# Altium footprint library PcbLib1.PcbLib: 7 footprints
Each footprint in its own frame and in the unit in brackets; x right, y up, seen from the top. Pads: shape width x height; smd on the part's side, far side on the other; paste and mask are expansions set on the pad; w line width, h text height; cw(c..) or ccw(c..) is an arc to the next point about the centre after c.
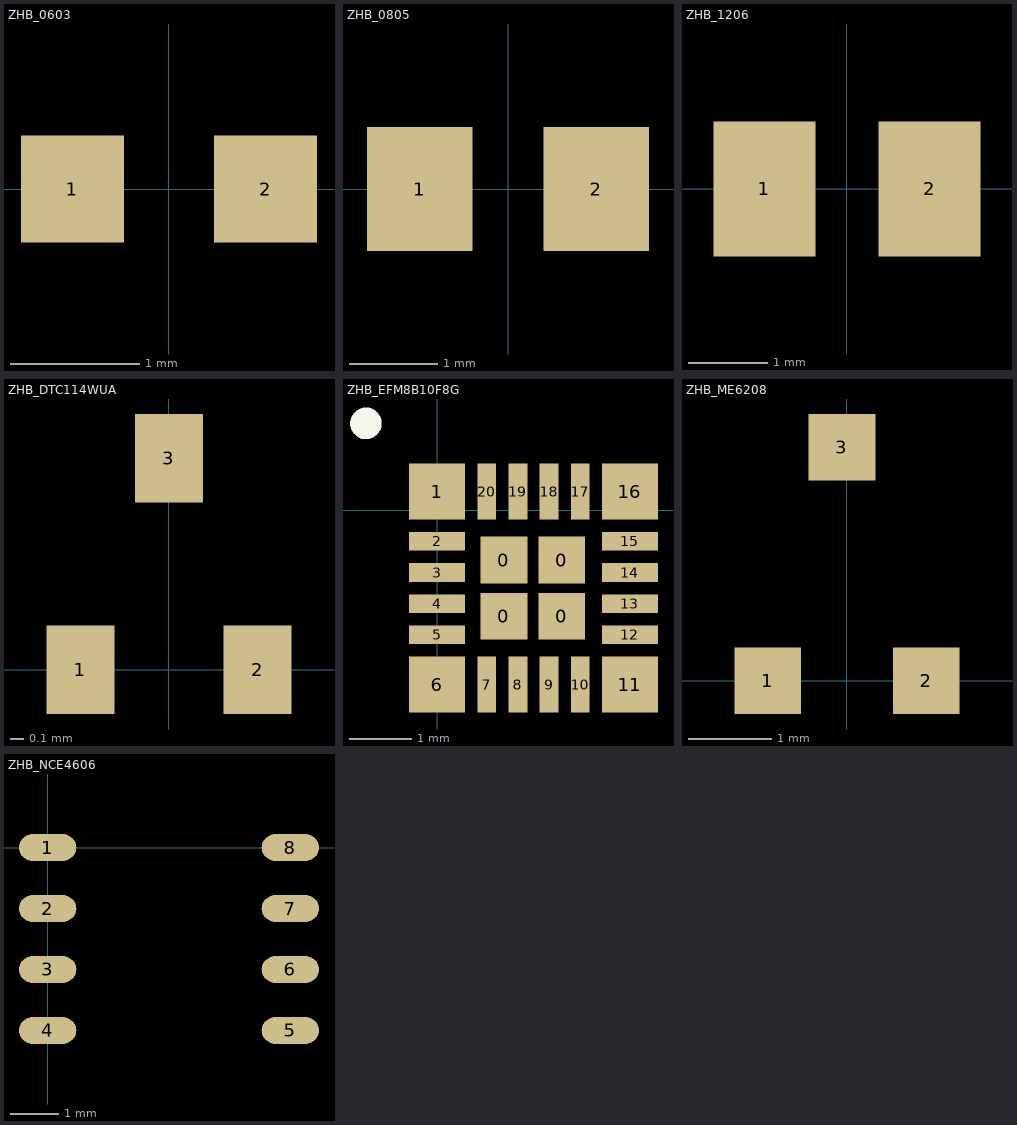
[diagram p0: the footprints below, top view; thin cyan lines are the x and y axes]

## ZHB_0603 [mm]
pads (2):
  rect 0.8x0.83 smd: 1(-0.75,0) 2(0.75,0)

## ZHB_0805 [mm]
pads (2):
  rect 1.2x1.4 smd: 1(-1,0) 2(1,0)

## ZHB_1206 [mm]
pads (2):
  rect 1.28x1.7 smd: 1(-1.04,0) 2(1.04,0)

## ZHB_DTC114WUA [mm]
pads (3):
  rect 0.5x0.65 smd: 1(-0.65,0) 2(0.65,0) 3(0,1.55)

## ZHB_EFM8B10F8G [mm]
pads (24):
  rect 0.75x0.75 smd: 0(1.075,-1.7) 0(1.075,-0.8) 0(2.005,-1.7) 0(2.005,-0.8)
  rect 0.9x0.9 smd: 1(0,0.3) 6(0,-2.8) 11(3.1,-2.8) 16(3.1,0.3)
  rect 0.9x0.3 smd: 2(0,-0.5) 3(0,-1) 4(0,-1.5) 5(0,-2) 12(3.1,-2) 13(3.1,-1.5) 14(3.1,-1) 15(3.1,-0.5)
  rect 0.3x0.9 smd: 7(0.8,-2.8) 8(1.3,-2.8) 9(1.8,-2.8) 10(2.3,-2.8) 17(2.3,0.3) 18(1.8,0.3) 19(1.3,0.3) 20(0.8,0.3)
Top Overlay:
  circle w0.254: c-1.143,1.397 r0.127

## ZHB_ME6208 [mm]
pads (3):
  rect 0.8x0.8 smd: 1(-0.95,0) 2(0.95,0) 3(-0.061,2.8)

## ZHB_NCE4606 [mm]
pads (8):
  oval 1.194x0.559 smd: 1(0,0) 2(0,-1.27) 3(0,-2.54) 4(0,-3.81) 5(5.054,-3.81) 6(5.054,-2.54) 7(5.054,-1.27) 8(5.054,0)